# Altium footprint library power managment.PcbLib: 4 footprints
Each footprint in its own frame and in the unit in brackets; x right, y up, seen from the top. Pads: shape width x height; smd on the part's side, far side on the other; paste and mask are expansions set on the pad; w line width, h text height; cw(c..) or ccw(c..) is an arc to the next point about the centre after c.
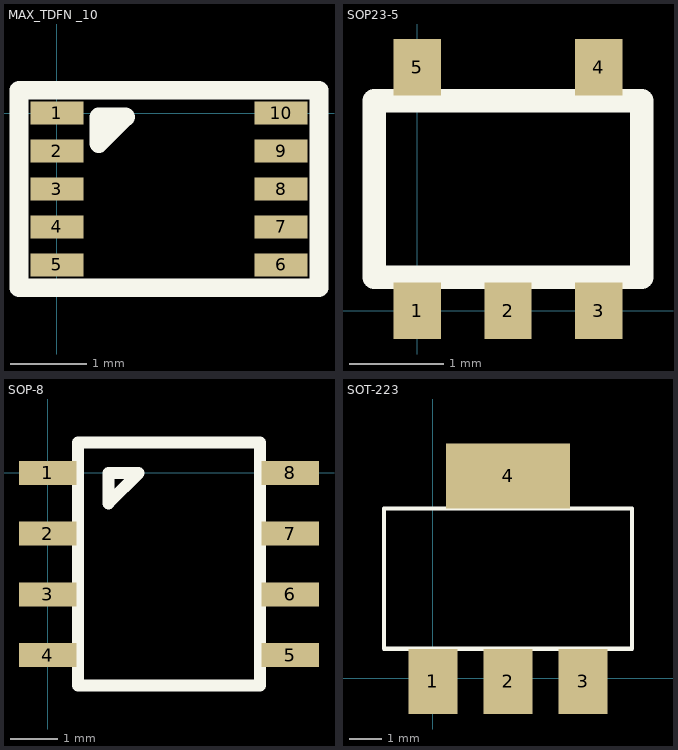
[diagram p0: the footprints below, top view; thin cyan lines are the x and y axes]

## MAX_TDFN _10 [mm]
pads (10):
  rect 0.7x0.3 smd: 1(0,0) 2(0,-0.5) 3(0,-1) 4(0,-1.5) 5(0,-2) 6(2.95,-2) 7(2.95,-1.5) 8(2.95,-1) 9(2.95,-0.5) 10(2.95,0)
Top Overlay:
  lines w0.249: -0.5,-2.3 -0.5,0.3 3.45,0.3 3.45,-2.3 -0.5,-2.3 ; 0.55,-0.4 0.55,-0.05 0.9,-0.05 0.55,-0.4

## SOP23-5 [mm]
pads (5):
  rect 0.5x0.6 smd: 1(0,0) 2(0.965,0) 3(1.93,0) 4(1.93,2.591) 5(0,2.591)
Top Overlay:
  lines w0.249: -0.457,0.356 -0.457,2.235 2.388,2.235 2.388,0.356 -0.457,0.356

## SOP-8 [mm]
pads (8):
  rect 1.2x0.5 smd: 1(0,0) 2(0,-1.27) 3(0,-2.54) 4(0,-3.81) 5(5.08,-3.81) 6(5.08,-2.54) 7(5.08,-1.27) 8(5.08,0)
Top Overlay:
  lines w0.249: 0.635,-4.445 0.635,0.635 4.445,0.635 4.445,-4.445 0.635,-4.445 ; 1.27,-0.635 1.905,0 1.27,0 1.27,-0.635

## SOT-223 [mm]
pads (4):
  rect 1.5x2 smd: 1(0,-0.1) 2(2.3,-0.1) 3(4.6,-0.1)
  rect 3.8x2 smd: 4(2.3,6.2)
Top Overlay:
  lines w0.13: -1.5,0.9 6.1,0.9 6.1,5.2 -1.5,5.2 -1.5,0.9